# Altium schematic symbol library ic-fpga.SchLib: 6 symbols
Pins are listed as number, name and electrical type; pins without a type are passive.

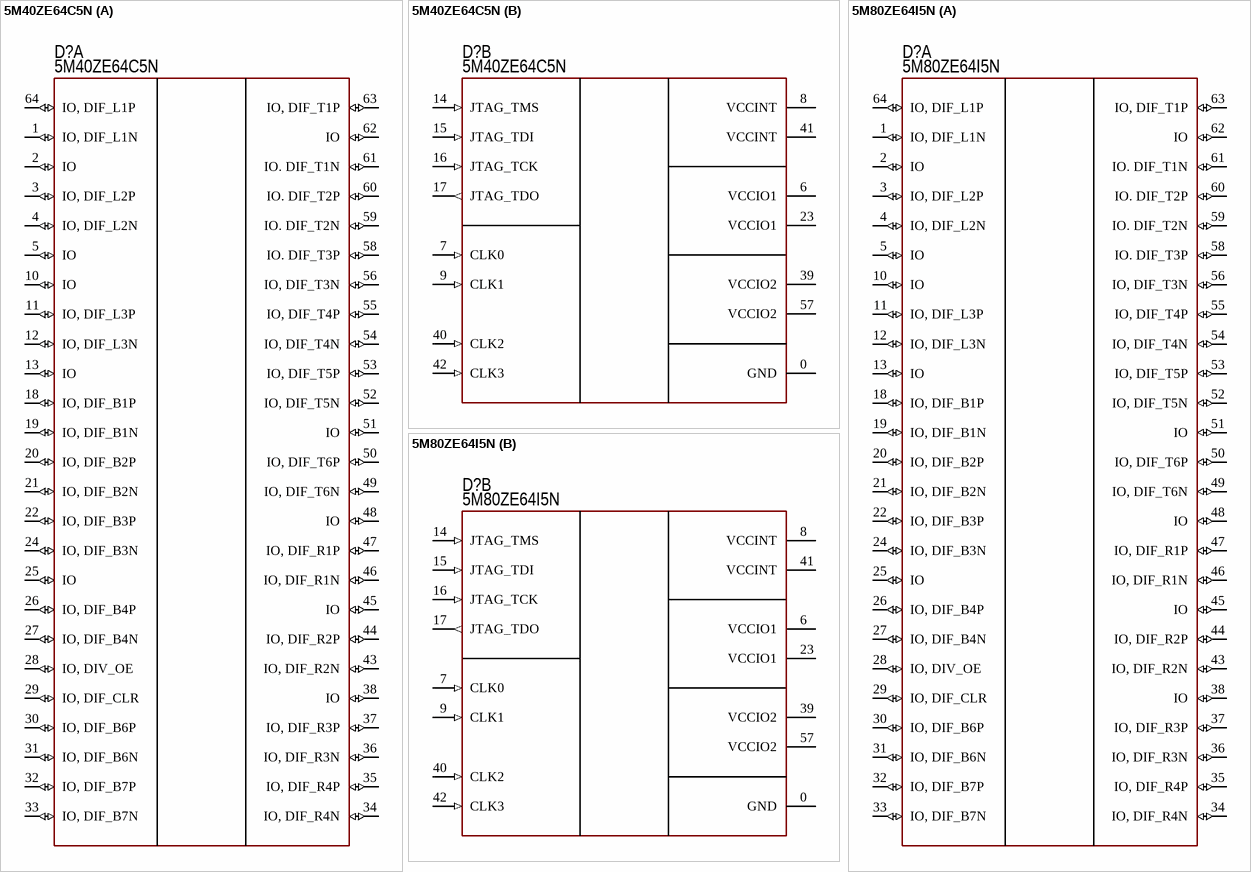
[diagram p0: symbols 5M40ZE64C5N to 5M80ZE64I5N]

## 5M40ZE64C5N
designator D?  PartNumber: 5M40ZE64C5N
CPLD Max V; Manufacturer: Intel; ValueManufacturerPartNumber: IC CPLD logic, MAX V, 100MHz, 40LE, 1.71...3.6V, -40...+85°C, 64-EQFP; Supply: 1.71...3.6V; Speed: 100MHz; LogicElements: 40LE; HelpURL: https://www.digikey.com/products/en?keywords=5M40ZE64C5N; Package: 64-EQFP; ComponentType: IC CPLD logic; Temperature: -40...+85°C; Series: MAX V
footprint 64-EQFP (pitch 0.4 mm, power pad)
part A pins: 1 IO, DIF_L1N (io), 2 IO (io), 3 IO, DIF_L2P (io), 4 IO, DIF_L2N (io), 5 IO (io), 10 IO (io), 11 IO, DIF_L3P (io), 12 IO, DIF_L3N (io), 13 IO (io), 18 IO, DIF_B1P (io), 19 IO, DIF_B1N (io), 20 IO, DIF_B2P (io), 21 IO, DIF_B2N (io), 22 IO, DIF_B3P (io), 24 IO, DIF_B3N (io), 25 IO (io), 26 IO, DIF_B4P (io), 27 IO, DIF_B4N (io), 28 IO, DIV_OE (io), 29 IO, DIF_CLR (io), 30 IO, DIF_B6P (io), 31 IO, DIF_B6N (io), 32 IO, DIF_B7P (io), 33 IO, DIF_B7N (io), 34 IO, DIF_R4N (io), 35 IO, DIF_R4P (io), 36 IO, DIF_R3N (io), 37 IO, DIF_R3P (io), 38 IO (io), 43 IO, DIF_R2N (io), 44 IO, DIF_R2P (io), 45 IO (io), 46 IO, DIF_R1N (io), 47 IO, DIF_R1P (io), 48 IO (io), 49 IO, DIF_T6N (io), 50 IO, DIF_T6P (io), 51 IO (io), 52 IO, DIF_T5N (io), 53 IO, DIF_T5P (io), 54 IO, DIF_T4N (io), 55 IO, DIF_T4P (io), 56 IO, DIF_T3N (io), 58 IO. DIF_T3P (io), 59 IO. DIF_T2N (io), 60 IO. DIF_T2P (io), 61 IO. DIF_T1N (io), 62 IO (io), 63 IO, DIF_T1P (io), 64 IO, DIF_L1P (io)
part B pins: 0 GND (power), 6 VCCIO1 (power), 7 CLK0 (in), 8 VCCINT (power), 9 CLK1 (in), 14 JTAG_TMS (in), 15 JTAG_TDI (in), 16 JTAG_TCK (in), 17 JTAG_TDO (out), 23 VCCIO1 (power), 39 VCCIO2 (power), 40 CLK2 (in), 41 VCCINT (power), 42 CLK3 (in), 57 VCCIO2 (power)

## 5M80ZE64I5N
designator D?  PartNumber: 5M80ZE64I5N
CPLD Max V; Manufacturer: Intel; ValueManufacturerPartNumber: IC CPLD logic, MAX V, 100MHz, 80LE, 1.71...1.89V, -40...+100°C, 64-EQFP; Supply: 1.71...1.89V; Speed: 100MHz; LogicElements: 80LE; HelpURL: https://www.digikey.com/product-detail/en/intel/5M80ZE64I5N/544-2817-ND/2660734; Package: 64-EQFP; ComponentType: IC CPLD logic; Temperature: -40...+100°C; Series: MAX V
footprint 64-EQFP (pitch 0.4 mm, power pad)
part A pins: 1 IO, DIF_L1N (io), 2 IO (io), 3 IO, DIF_L2P (io), 4 IO, DIF_L2N (io), 5 IO (io), 10 IO (io), 11 IO, DIF_L3P (io), 12 IO, DIF_L3N (io), 13 IO (io), 18 IO, DIF_B1P (io), 19 IO, DIF_B1N (io), 20 IO, DIF_B2P (io), 21 IO, DIF_B2N (io), 22 IO, DIF_B3P (io), 24 IO, DIF_B3N (io), 25 IO (io), 26 IO, DIF_B4P (io), 27 IO, DIF_B4N (io), 28 IO, DIV_OE (io), 29 IO, DIF_CLR (io), 30 IO, DIF_B6P (io), 31 IO, DIF_B6N (io), 32 IO, DIF_B7P (io), 33 IO, DIF_B7N (io), 34 IO, DIF_R4N (io), 35 IO, DIF_R4P (io), 36 IO, DIF_R3N (io), 37 IO, DIF_R3P (io), 38 IO (io), 43 IO, DIF_R2N (io), 44 IO, DIF_R2P (io), 45 IO (io), 46 IO, DIF_R1N (io), 47 IO, DIF_R1P (io), 48 IO (io), 49 IO, DIF_T6N (io), 50 IO, DIF_T6P (io), 51 IO (io), 52 IO, DIF_T5N (io), 53 IO, DIF_T5P (io), 54 IO, DIF_T4N (io), 55 IO, DIF_T4P (io), 56 IO, DIF_T3N (io), 58 IO. DIF_T3P (io), 59 IO. DIF_T2N (io), 60 IO. DIF_T2P (io), 61 IO. DIF_T1N (io), 62 IO (io), 63 IO, DIF_T1P (io), 64 IO, DIF_L1P (io)
part B pins: 0 GND (power), 6 VCCIO1 (power), 7 CLK0 (in), 8 VCCINT (power), 9 CLK1 (in), 14 JTAG_TMS (in), 15 JTAG_TDI (in), 16 JTAG_TCK (in), 17 JTAG_TDO (out), 23 VCCIO1 (power), 39 VCCIO2 (power), 40 CLK2 (in), 41 VCCINT (power), 42 CLK3 (in), 57 VCCIO2 (power)

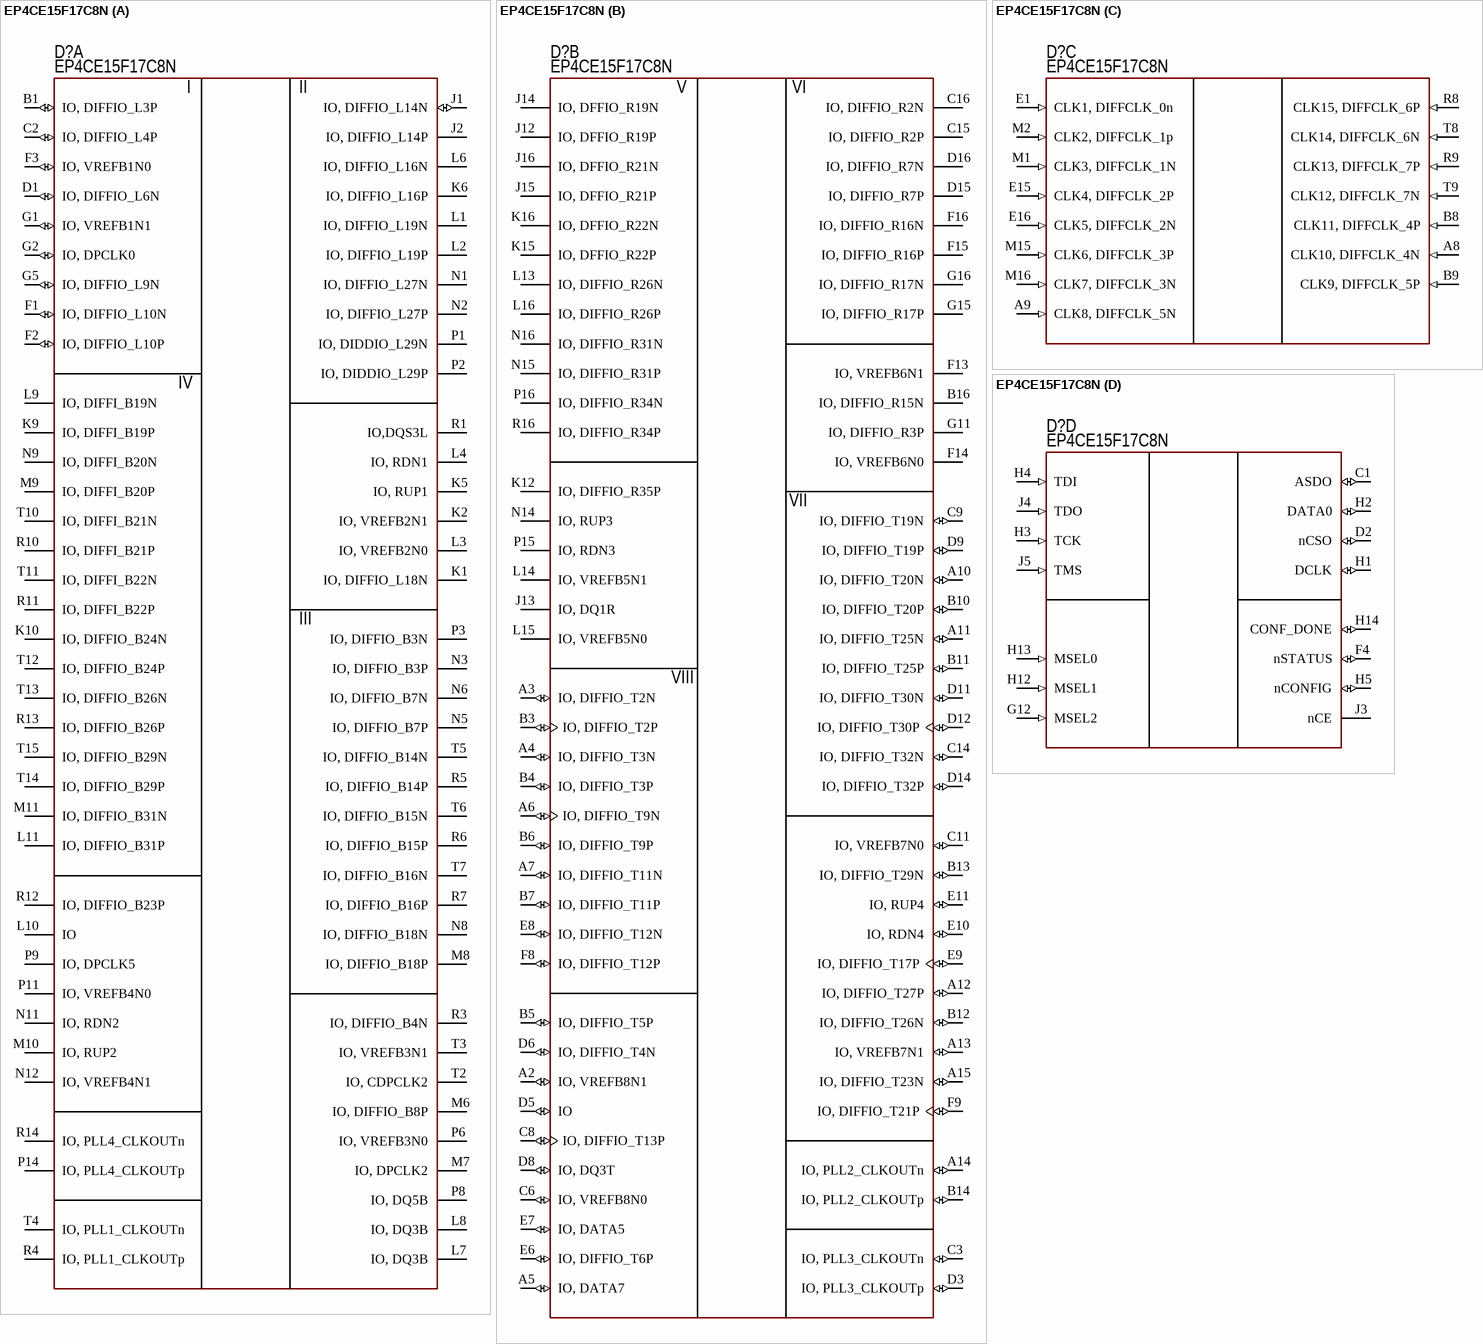
[diagram p1: symbol EP4CE15F17C8N]

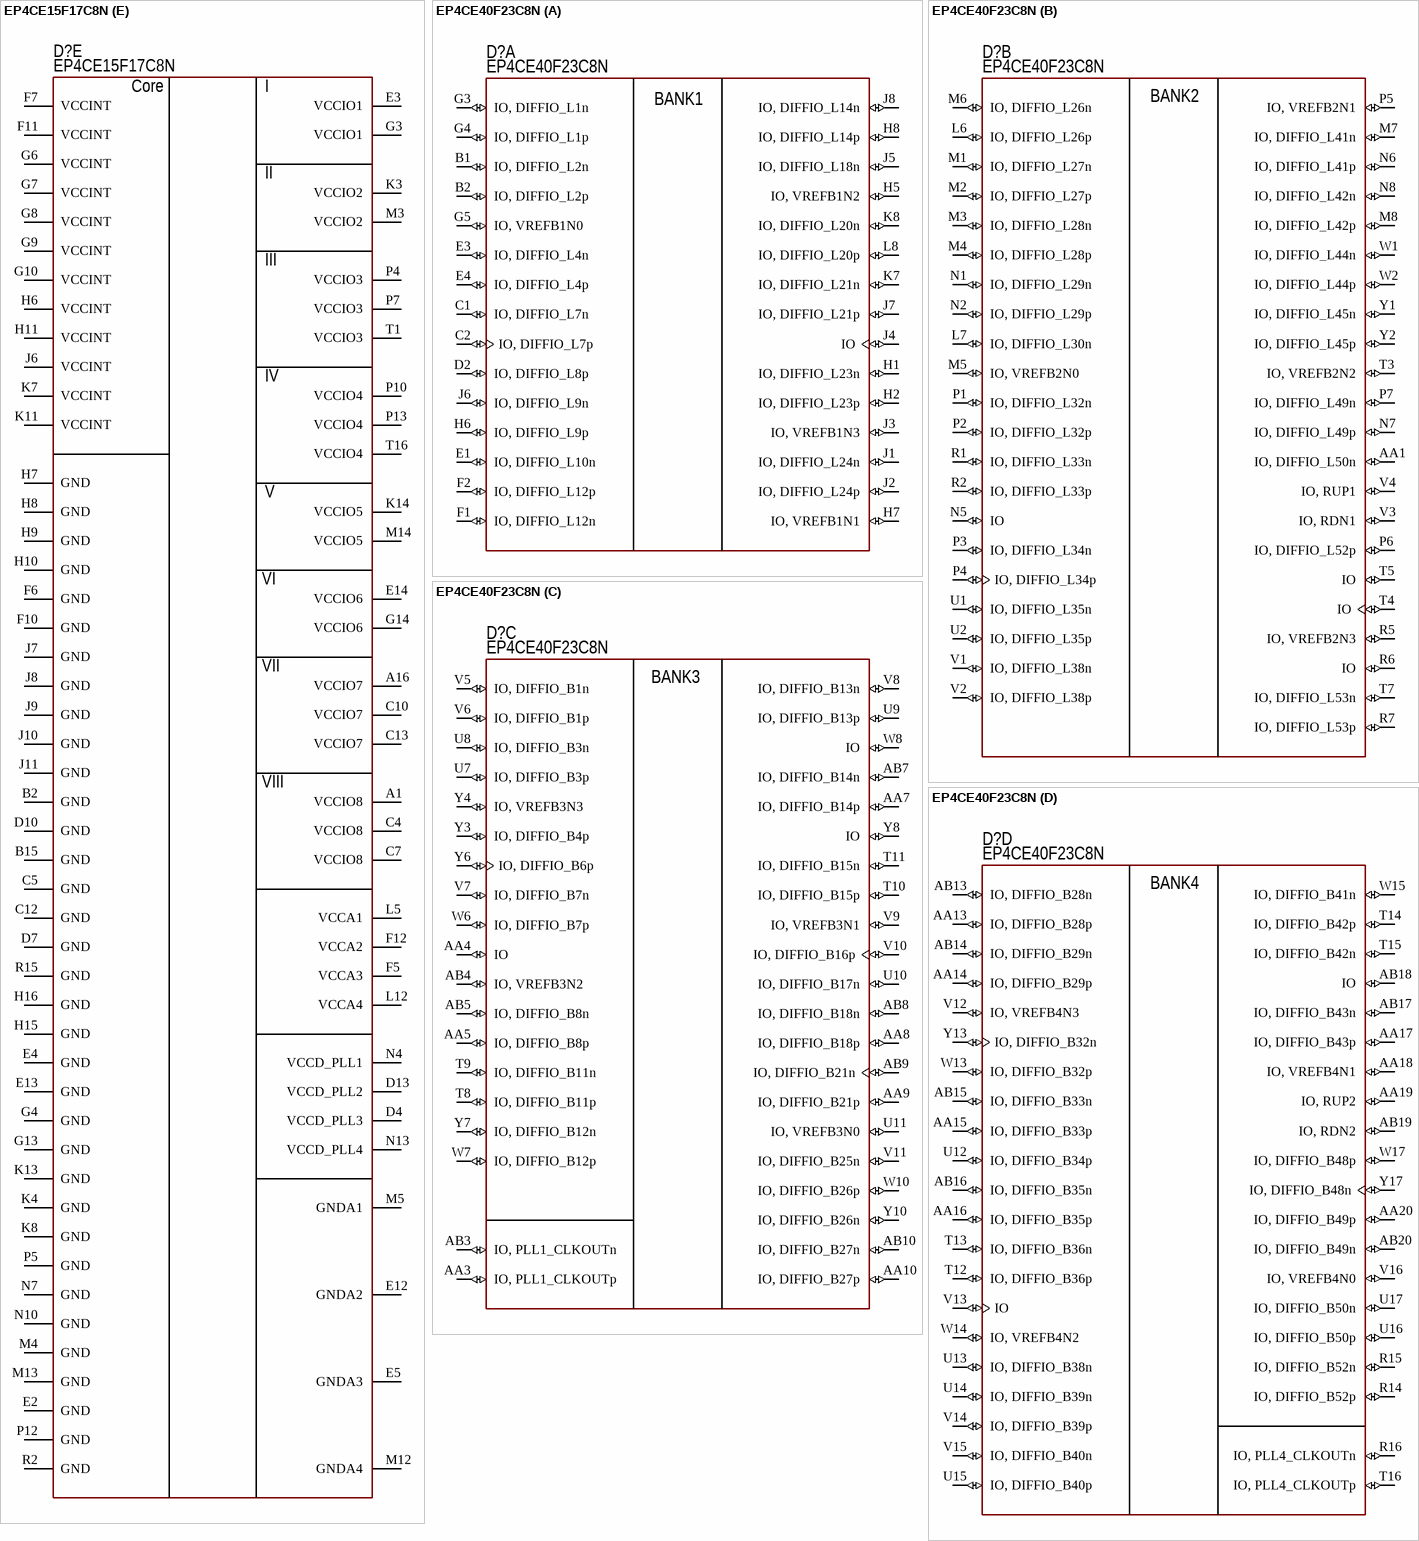
[diagram p2: symbols EP4CE15F17C8N to EP4CE40F23C8N]

## EP4CE15F17C8N
designator D?  PartNumber: EP4CE15F17C8N
FPGA Cyclone IV; Manufacturer: Intel; ValueManufacturerPartNumber: IC FPGA, Cyclone IV, 400MHz, 15480LE, 516096 bits, 1.15...1.25V, 0...+85°C, 256-LBGA; Supply: 1.15...1.25V; Speed: 400MHz; LogicElements: 15480LE; MemoryRAM: 516096 bits; HelpURL: https://www.digikey.com/product-detail/en/intel/EP4CE15F17C8N/544-2808-ND/2288302; Package: 256-LBGA; ComponentType: IC FPGA; Temperature: 0...+85°C; Series: Cyclone IV
footprint 256-FBGA (pitch 1mm)
part A pins: B1 IO, DIFFIO_L3P (io), C2 IO, DIFFIO_L4P (io), D1 IO, DIFFIO_L6N (io), F1 IO, DIFFIO_L10N (io), F2 IO, DIFFIO_L10P (io), F3 IO, VREFB1N0 (io), G1 IO, VREFB1N1 (io), G2 IO, DPCLK0 (io), G5 IO, DIFFIO_L9N (io), J1 IO, DIFFIO_L14N (io), J2 IO, DIFFIO_L14P, K1 IO, DIFFIO_L18N, K2 IO, VREFB2N1, K5 IO, RUP1, K6 IO, DIFFIO_L16P, K9 IO, DIFFI_B19P, K10 IO, DIFFIO_B24N, L1 IO, DIFFIO_L19N, L2 IO, DIFFIO_L19P, L3 IO, VREFB2N0, L4 IO, RDN1, L6 IO, DIFFIO_L16N, L7 IO, DQ3B, L8 IO, DQ3B, L9 IO, DIFFI_B19N, L10 IO, L11 IO, DIFFIO_B31P, M6 IO, DIFFIO_B8P, M7 IO, DPCLK2, M8 IO, DIFFIO_B18P, M9 IO, DIFFI_B20P, M10 IO, RUP2, M11 IO, DIFFIO_B31N, N1 IO, DIFFIO_L27N, N2 IO, DIFFIO_L27P, N3 IO, DIFFIO_B3P, N5 IO, DIFFIO_B7P, N6 IO, DIFFIO_B7N, N8 IO, DIFFIO_B18N, N9 IO, DIFFI_B20N, N11 IO, RDN2, N12 IO, VREFB4N1, P1 IO, DIDDIO_L29N, P2 IO, DIDDIO_L29P, P3 IO, DIFFIO_B3N, P6 IO, VREFB3N0, P8 IO, DQ5B, P9 IO, DPCLK5, P11 IO, VREFB4N0, P14 IO, PLL4_CLKOUTp, R1 IO,DQS3L, R3 IO, DIFFIO_B4N, R4 IO, PLL1_CLKOUTp, R5 IO, DIFFIO_B14P, R6 IO, DIFFIO_B15P, R7 IO, DIFFIO_B16P, R10 IO, DIFFI_B21P, R11 IO, DIFFI_B22P, R12 IO, DIFFIO_B23P, R13 IO, DIFFIO_B26P, R14 IO, PLL4_CLKOUTn, T2 IO, CDPCLK2, T3 IO, VREFB3N1, T4 IO, PLL1_CLKOUTn, T5 IO, DIFFIO_B14N, T6 IO, DIFFIO_B15N, T7 IO, DIFFIO_B16N, T10 IO, DIFFI_B21N, T11 IO, DIFFI_B22N, T12 IO, DIFFIO_B24P, T13 IO, DIFFIO_B26N, T14 IO, DIFFIO_B29P, T15 IO, DIFFIO_B29N
part B pins: A2 IO, VREFB8N1 (io), A3 IO, DIFFIO_T2N (io), A4 IO, DIFFIO_T3N (io), A5 IO, DATA7 (io), A6 IO, DIFFIO_T9N (io), A7 IO, DIFFIO_T11N (io), A10 IO, DIFFIO_T20N (io), A11 IO, DIFFIO_T25N (io), A12 IO, DIFFIO_T27P (io), A13 IO, VREFB7N1 (io), A14 IO, PLL2_CLKOUTn (io), A15 IO, DIFFIO_T23N (io), B3 IO, DIFFIO_T2P (io), B4 IO, DIFFIO_T3P (io), B5 IO, DIFFIO_T5P (io), B6 IO, DIFFIO_T9P (io), B7 IO, DIFFIO_T11P (io), B10 IO, DIFFIO_T20P (io), B11 IO, DIFFIO_T25P (io), B12 IO, DIFFIO_T26N (io), B13 IO, DIFFIO_T29N (io), B14 IO, PLL2_CLKOUTp (io), B16 IO, DIFFIO_R15N, C3 IO, PLL3_CLKOUTn (io), C6 IO, VREFB8N0 (io), C8 IO, DIFFIO_T13P (io), C9 IO, DIFFIO_T19N (io), C11 IO, VREFB7N0 (io), C14 IO, DIFFIO_T32N (io), C15 IO, DIFFIO_R2P, C16 IO, DIFFIO_R2N, D3 IO, PLL3_CLKOUTp (io), D5 IO (io), D6 IO, DIFFIO_T4N (io), D8 IO, DQ3T (io), D9 IO, DIFFIO_T19P (io), D11 IO, DIFFIO_T30N (io), D12 IO, DIFFIO_T30P (io), D14 IO, DIFFIO_T32P (io), D15 IO, DIFFIO_R7P, D16 IO, DIFFIO_R7N, E6 IO, DIFFIO_T6P (io), E7 IO, DATA5 (io), E8 IO, DIFFIO_T12N (io), E9 IO, DIFFIO_T17P (io), E10 IO, RDN4 (io), E11 IO, RUP4 (io), F8 IO, DIFFIO_T12P (io), F9 IO, DIFFIO_T21P (io), F13 IO, VREFB6N1, F14 IO, VREFB6N0, F15 IO, DIFFIO_R16P, F16 IO, DIFFIO_R16N, G11 IO, DIFFIO_R3P, G15 IO, DIFFIO_R17P, G16 IO, DIFFIO_R17N, J12 IO, DFFIO_R19P, J13 IO, DQ1R, J14 IO, DFFIO_R19N, J15 IO, DFFIO_R21P, J16 IO, DFFIO_R21N, K12 IO, DIFFIO_R35P, K15 IO, DFFIO_R22P, K16 IO, DFFIO_R22N, L13 IO, DIFFIO_R26N, L14 IO, VREFB5N1, L15 IO, VREFB5N0, L16 IO, DIFFIO_R26P, N14 IO, RUP3, N15 IO, DIFFIO_R31P, N16 IO, DIFFIO_R31N, P15 IO, RDN3, P16 IO, DIFFIO_R34N, R16 IO, DIFFIO_R34P
part C pins: A8 CLK10, DIFFCLK_4N (in), A9 CLK8, DIFFCLK_5N (in), B8 CLK11, DIFFCLK_4P (in), B9 CLK9, DIFFCLK_5P (in), E1 CLK1, DIFFCLK_0n (in), E15 CLK4, DIFFCLK_2P (in), E16 CLK5, DIFFCLK_2N (in), M1 CLK3, DIFFCLK_1N (in), M2 CLK2, DIFFCLK_1p (in), M15 CLK6, DIFFCLK_3P (in), M16 CLK7, DIFFCLK_3N (in), R8 CLK15, DIFFCLK_6P (in), R9 CLK13, DIFFCLK_7P (in), T8 CLK14, DIFFCLK_6N (in), T9 CLK12, DIFFCLK_7N (in)
part D pins: C1 ASDO (io), D2 nCSO (io), F4 nSTATUS (io), G12 MSEL2 (in), H1 DCLK (io), H2 DATA0 (io), H3 TCK (in), H4 TDI (in), H5 nCONFIG (io), H12 MSEL1 (in), H13 MSEL0 (in), H14 CONF_DONE (io), J3 nCE, J4 TDO (in), J5 TMS (in)
part E pins: A1 VCCIO8, A16 VCCIO7, B2 GND, B15 GND, C4 VCCIO8, C5 GND, C7 VCCIO8, C10 VCCIO7, C12 GND, C13 VCCIO7, D4 VCCD_PLL3, D7 GND, D10 GND, D13 VCCD_PLL2, E2 GND, E3 VCCIO1, E4 GND, E5 GNDA3, E12 GNDA2, E13 GND, E14 VCCIO6, F5 VCCA3, F6 GND, F7 VCCINT, F10 GND, F11 VCCINT, F12 VCCA2, G3 VCCIO1, G4 GND, G6 VCCINT, G7 VCCINT, G8 VCCINT, G9 VCCINT, G10 VCCINT, G13 GND, G14 VCCIO6, H6 VCCINT, H7 GND, H8 GND, H9 GND, H10 GND, H11 VCCINT, H15 GND, H16 GND, J6 VCCINT, J7 GND, J8 GND, J9 GND, J10 GND, J11 GND, K3 VCCIO2, K4 GND, K7 VCCINT, K8 GND, K11 VCCINT, K13 GND, K14 VCCIO5, L5 VCCA1, L12 VCCA4, M3 VCCIO2, M4 GND, M5 GNDA1, M12 GNDA4, M13 GND, M14 VCCIO5, N4 VCCD_PLL1, N7 GND, N10 GND, N13 VCCD_PLL4, P4 VCCIO3, P5 GND, P7 VCCIO3, P10 VCCIO4, P12 GND, P13 VCCIO4, R2 GND, R15 GND, T1 VCCIO3, T16 VCCIO4
part A text: I; II; IV; III
part B text: V; VI; VII; VIII
part E text: Core; I; II; III; IV; V; VI; VII; VIII

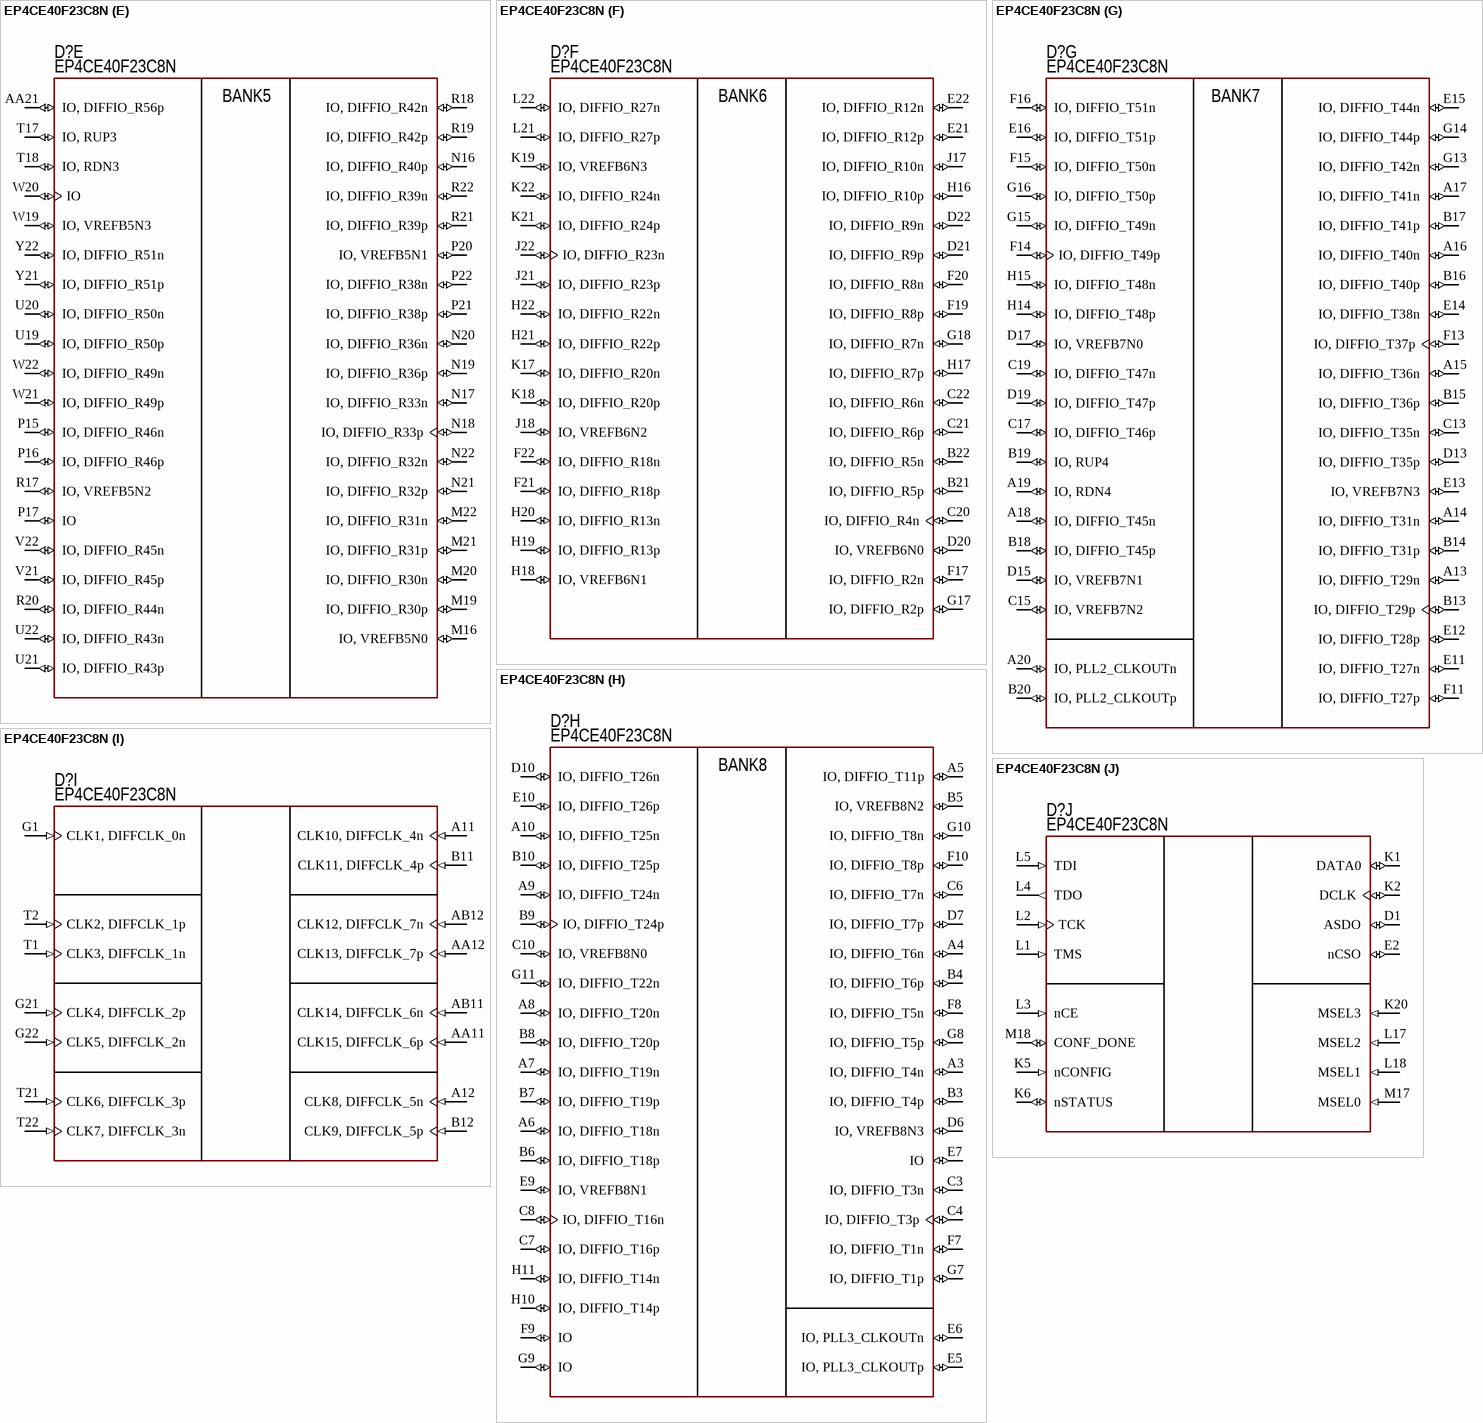
[diagram p3: symbol EP4CE40F23C8N]

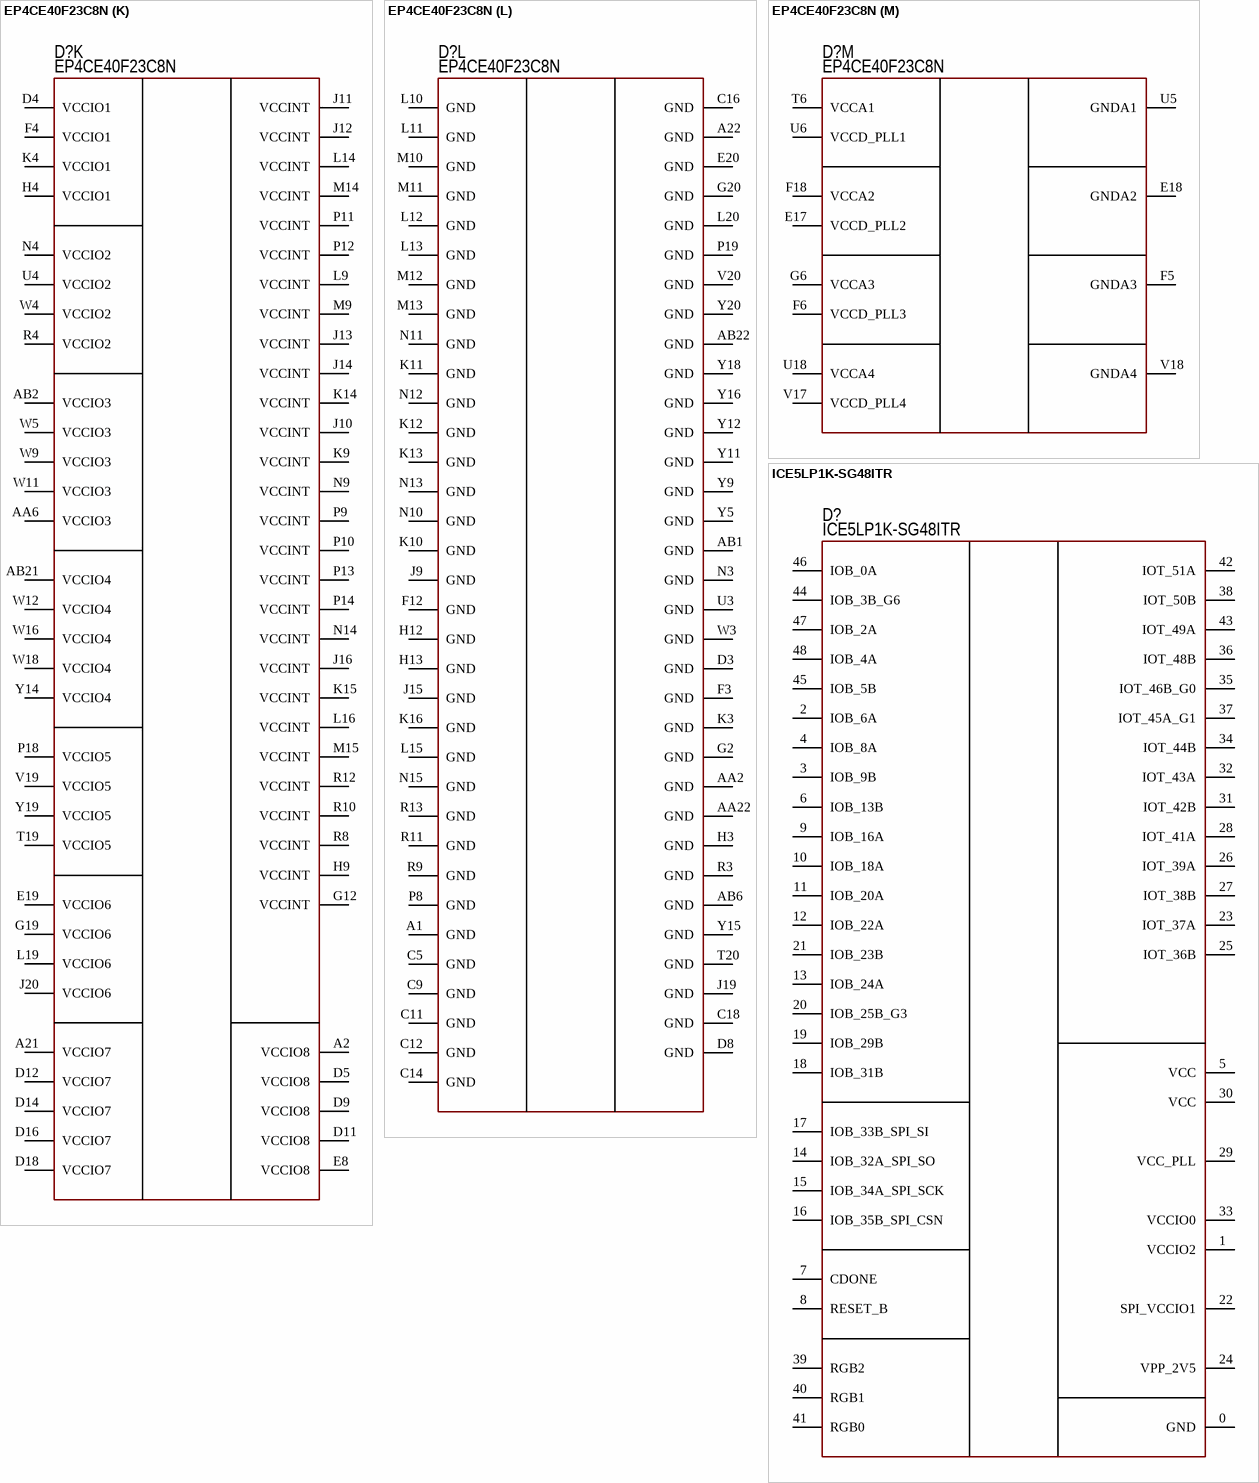
[diagram p4: symbols EP4CE40F23C8N to ICE5LP1K-SG48ITR]

## EP4CE40F23C8N
designator D?  PartNumber: EP4CE40F23C8N
FPGA Cyclone IV; Manufacturer: Intel; ValueManufacturerPartNumber: IC FPGA, Cyclone IV, 400MHz, 39600LE, 1161216 bits, 1.15...1.25V, 0...+85°C, 484-FBGA; Supply: 1.15...1.25V; Speed: 400MHz; LogicElements: 39600LE; MemoryRAM: 1161216 bits; HelpURL: https://www.digikey.com/products/en?keywords=EP4CE40F23C8N; Package: 484-FBGA; ComponentType: IC FPGA; Temperature: 0...+85°C; Series: Cyclone IV
footprint 484-FBGA (pitch 1 mm)
part A pins: B1 IO, DIFFIO_L2n (io), B2 IO, DIFFIO_L2p (io), C1 IO, DIFFIO_L7n (io), C2 IO, DIFFIO_L7p (io), D2 IO, DIFFIO_L8p (io), E1 IO, DIFFIO_L10n (io), E3 IO, DIFFIO_L4n (io), E4 IO, DIFFIO_L4p (io), F1 IO, DIFFIO_L12n (io), F2 IO, DIFFIO_L12p (io), G3 IO, DIFFIO_L1n (io), G4 IO, DIFFIO_L1p (io), G5 IO, VREFB1N0 (io), H1 IO, DIFFIO_L23n (io), H2 IO, DIFFIO_L23p (io), H5 IO, VREFB1N2 (io), H6 IO, DIFFIO_L9p (io), H7 IO, VREFB1N1 (io), H8 IO, DIFFIO_L14p (io), J1 IO, DIFFIO_L24n (io), J2 IO, DIFFIO_L24p (io), J3 IO, VREFB1N3 (io), J4 IO (io), J5 IO, DIFFIO_L18n (io), J6 IO, DIFFIO_L9n (io), J7 IO, DIFFIO_L21p (io), J8 IO, DIFFIO_L14n (io), K7 IO, DIFFIO_L21n (io), K8 IO, DIFFIO_L20n (io), L8 IO, DIFFIO_L20p (io)
part B pins: AA1 IO, DIFFIO_L50n (io), L6 IO, DIFFIO_L26p (io), L7 IO, DIFFIO_L30n (io), M1 IO, DIFFIO_L27n (io), M2 IO, DIFFIO_L27p (io), M3 IO, DIFFIO_L28n (io), M4 IO, DIFFIO_L28p (io), M5 IO, VREFB2N0 (io), M6 IO, DIFFIO_L26n (io), M7 IO, DIFFIO_L41n (io), M8 IO, DIFFIO_L42p (io), N1 IO, DIFFIO_L29n (io), N2 IO, DIFFIO_L29p (io), N5 IO (io), N6 IO, DIFFIO_L41p (io), N7 IO, DIFFIO_L49p (io), N8 IO, DIFFIO_L42n (io), P1 IO, DIFFIO_L32n (io), P2 IO, DIFFIO_L32p (io), P3 IO, DIFFIO_L34n (io), P4 IO, DIFFIO_L34p (io), P5 IO, VREFB2N1 (io), P6 IO, DIFFIO_L52p (io), P7 IO, DIFFIO_L49n (io), R1 IO, DIFFIO_L33n (io), R2 IO, DIFFIO_L33p (io), R5 IO, VREFB2N3 (io), R6 IO (io), R7 IO, DIFFIO_L53p (io), T3 IO, VREFB2N2 (io), T4 IO (io), T5 IO (io), T7 IO, DIFFIO_L53n (io), U1 IO, DIFFIO_L35n (io), U2 IO, DIFFIO_L35p (io), V1 IO, DIFFIO_L38n (io), V2 IO, DIFFIO_L38p (io), V3 IO, RDN1 (io), V4 IO, RUP1 (io), W1 IO, DIFFIO_L44n (io), W2 IO, DIFFIO_L44p (io), Y1 IO, DIFFIO_L45n (io), Y2 IO, DIFFIO_L45p (io)
part C pins: AA3 IO, PLL1_CLKOUTp (io), AA4 IO (io), AA5 IO, DIFFIO_B8p (io), AA7 IO, DIFFIO_B14p (io), AA8 IO, DIFFIO_B18p (io), AA9 IO, DIFFIO_B21p (io), AA10 IO, DIFFIO_B27p (io), AB3 IO, PLL1_CLKOUTn (io), AB4 IO, VREFB3N2 (io), AB5 IO, DIFFIO_B8n (io), AB7 IO, DIFFIO_B14n (io), AB8 IO, DIFFIO_B18n (io), AB9 IO, DIFFIO_B21n (io), AB10 IO, DIFFIO_B27n (io), T8 IO, DIFFIO_B11p (io), T9 IO, DIFFIO_B11n (io), T10 IO, DIFFIO_B15p (io), T11 IO, DIFFIO_B15n (io), U7 IO, DIFFIO_B3p (io), U8 IO, DIFFIO_B3n (io), U9 IO, DIFFIO_B13p (io), U10 IO, DIFFIO_B17n (io), U11 IO, VREFB3N0 (io), V5 IO, DIFFIO_B1n (io), V6 IO, DIFFIO_B1p (io), V7 IO, DIFFIO_B7n (io), V8 IO, DIFFIO_B13n (io), V9 IO, VREFB3N1 (io), V10 IO, DIFFIO_B16p (io), V11 IO, DIFFIO_B25n (io), W6 IO, DIFFIO_B7p (io), W7 IO, DIFFIO_B12p (io), W8 IO (io), W10 IO, DIFFIO_B26p (io), Y3 IO, DIFFIO_B4p (io), Y4 IO, VREFB3N3 (io), Y6 IO, DIFFIO_B6p (io), Y7 IO, DIFFIO_B12n (io), Y8 IO (io), Y10 IO, DIFFIO_B26n (io)
part D pins: AA13 IO, DIFFIO_B28p (io), AA14 IO, DIFFIO_B29p (io), AA15 IO, DIFFIO_B33p (io), AA16 IO, DIFFIO_B35p (io), AA17 IO, DIFFIO_B43p (io), AA18 IO, VREFB4N1 (io), AA19 IO, RUP2 (io), AA20 IO, DIFFIO_B49p (io), AB13 IO, DIFFIO_B28n (io), AB14 IO, DIFFIO_B29n (io), AB15 IO, DIFFIO_B33n (io), AB16 IO, DIFFIO_B35n (io), AB17 IO, DIFFIO_B43n (io), AB18 IO (io), AB19 IO, RDN2 (io), AB20 IO, DIFFIO_B49n (io), R14 IO, DIFFIO_B52p (io), R15 IO, DIFFIO_B52n (io), R16 IO, PLL4_CLKOUTn (io), T12 IO, DIFFIO_B36p (io), T13 IO, DIFFIO_B36n (io), T14 IO, DIFFIO_B42p (io), T15 IO, DIFFIO_B42n (io), T16 IO, PLL4_CLKOUTp (io), U12 IO, DIFFIO_B34p (io), U13 IO, DIFFIO_B38n (io), U14 IO, DIFFIO_B39n (io), U15 IO, DIFFIO_B40p (io), U16 IO, DIFFIO_B50p (io), U17 IO, DIFFIO_B50n (io), V12 IO, VREFB4N3 (io), V13 IO (io), V14 IO, DIFFIO_B39p (io), V15 IO, DIFFIO_B40n (io), V16 IO, VREFB4N0 (io), W13 IO, DIFFIO_B32p (io), W14 IO, VREFB4N2 (io), W15 IO, DIFFIO_B41n (io), W17 IO, DIFFIO_B48p (io), Y13 IO, DIFFIO_B32n (io), Y17 IO, DIFFIO_B48n (io)
part E pins: AA21 IO, DIFFIO_R56p (io), M16 IO, VREFB5N0 (io), M19 IO, DIFFIO_R30p (io), M20 IO, DIFFIO_R30n (io), M21 IO, DIFFIO_R31p (io), M22 IO, DIFFIO_R31n (io), N16 IO, DIFFIO_R40p (io), N17 IO, DIFFIO_R33n (io), N18 IO, DIFFIO_R33p (io), N19 IO, DIFFIO_R36p (io), N20 IO, DIFFIO_R36n (io), N21 IO, DIFFIO_R32p (io), N22 IO, DIFFIO_R32n (io), P15 IO, DIFFIO_R46n (io), P16 IO, DIFFIO_R46p (io), P17 IO (io), P20 IO, VREFB5N1 (io), P21 IO, DIFFIO_R38p (io), P22 IO, DIFFIO_R38n (io), R17 IO, VREFB5N2 (io), R18 IO, DIFFIO_R42n (io), R19 IO, DIFFIO_R42p (io), R20 IO, DIFFIO_R44n (io), R21 IO, DIFFIO_R39p (io), R22 IO, DIFFIO_R39n (io), T17 IO, RUP3 (io), T18 IO, RDN3 (io), U19 IO, DIFFIO_R50p (io), U20 IO, DIFFIO_R50n (io), U21 IO, DIFFIO_R43p (io), U22 IO, DIFFIO_R43n (io), V21 IO, DIFFIO_R45p (io), V22 IO, DIFFIO_R45n (io), W19 IO, VREFB5N3 (io), W20 IO (io), W21 IO, DIFFIO_R49p (io), W22 IO, DIFFIO_R49n (io), Y21 IO, DIFFIO_R51p (io), Y22 IO, DIFFIO_R51n (io)
part F pins: B21 IO, DIFFIO_R5p (io), B22 IO, DIFFIO_R5n (io), C20 IO, DIFFIO_R4n (io), C21 IO, DIFFIO_R6p (io), C22 IO, DIFFIO_R6n (io), D20 IO, VREFB6N0 (io), D21 IO, DIFFIO_R9p (io), D22 IO, DIFFIO_R9n (io), E21 IO, DIFFIO_R12p (io), E22 IO, DIFFIO_R12n (io), F17 IO, DIFFIO_R2n (io), F19 IO, DIFFIO_R8p (io), F20 IO, DIFFIO_R8n (io), F21 IO, DIFFIO_R18p (io), F22 IO, DIFFIO_R18n (io), G17 IO, DIFFIO_R2p (io), G18 IO, DIFFIO_R7n (io), H16 IO, DIFFIO_R10p (io), H17 IO, DIFFIO_R7p (io), H18 IO, VREFB6N1 (io), H19 IO, DIFFIO_R13p (io), H20 IO, DIFFIO_R13n (io), H21 IO, DIFFIO_R22p (io), H22 IO, DIFFIO_R22n (io), J17 IO, DIFFIO_R10n (io), J18 IO, VREFB6N2 (io), J21 IO, DIFFIO_R23p (io), J22 IO, DIFFIO_R23n (io), K17 IO, DIFFIO_R20n (io), K18 IO, DIFFIO_R20p (io), K19 IO, VREFB6N3 (io), K21 IO, DIFFIO_R24p (io), K22 IO, DIFFIO_R24n (io), L21 IO, DIFFIO_R27p (io), L22 IO, DIFFIO_R27n (io)
part G pins: A13 IO, DIFFIO_T29n (io), A14 IO, DIFFIO_T31n (io), A15 IO, DIFFIO_T36n (io), A16 IO, DIFFIO_T40n (io), A17 IO, DIFFIO_T41n (io), A18 IO, DIFFIO_T45n (io), A19 IO, RDN4 (io), A20 IO, PLL2_CLKOUTn (io), B13 IO, DIFFIO_T29p (io), B14 IO, DIFFIO_T31p (io), B15 IO, DIFFIO_T36p (io), B16 IO, DIFFIO_T40p (io), B17 IO, DIFFIO_T41p (io), B18 IO, DIFFIO_T45p (io), B19 IO, RUP4 (io), B20 IO, PLL2_CLKOUTp (io), C13 IO, DIFFIO_T35n (io), C15 IO, VREFB7N2 (io), C17 IO, DIFFIO_T46p (io), C19 IO, DIFFIO_T47n (io), D13 IO, DIFFIO_T35p (io), D15 IO, VREFB7N1 (io), D17 IO, VREFB7N0 (io), D19 IO, DIFFIO_T47p (io), E11 IO, DIFFIO_T27n (io), E12 IO, DIFFIO_T28p (io), E13 IO, VREFB7N3 (io), E14 IO, DIFFIO_T38n (io), E15 IO, DIFFIO_T44n (io), E16 IO, DIFFIO_T51p (io), F11 IO, DIFFIO_T27p (io), F13 IO, DIFFIO_T37p (io), F14 IO, DIFFIO_T49p (io), F15 IO, DIFFIO_T50n (io), F16 IO, DIFFIO_T51n (io), G13 IO, DIFFIO_T42n (io), G14 IO, DIFFIO_T44p (io), G15 IO, DIFFIO_T49n (io), G16 IO, DIFFIO_T50p (io), H14 IO, DIFFIO_T48p (io), H15 IO, DIFFIO_T48n (io)
part H pins: A3 IO, DIFFIO_T4n (io), A4 IO, DIFFIO_T6n (io), A5 IO, DIFFIO_T11p (io), A6 IO, DIFFIO_T18n (io), A7 IO, DIFFIO_T19n (io), A8 IO, DIFFIO_T20n (io), A9 IO, DIFFIO_T24n (io), A10 IO, DIFFIO_T25n (io), B3 IO, DIFFIO_T4p (io), B4 IO, DIFFIO_T6p (io), B5 IO, VREFB8N2 (io), B6 IO, DIFFIO_T18p (io), B7 IO, DIFFIO_T19p (io), B8 IO, DIFFIO_T20p (io), B9 IO, DIFFIO_T24p (io), B10 IO, DIFFIO_T25p (io), C3 IO, DIFFIO_T3n (io), C4 IO, DIFFIO_T3p (io), C6 IO, DIFFIO_T7n (io), C7 IO, DIFFIO_T16p (io), C8 IO, DIFFIO_T16n (io), C10 IO, VREFB8N0 (io), D6 IO, VREFB8N3 (io), D7 IO, DIFFIO_T7p (io), D10 IO, DIFFIO_T26n (io), E5 IO, PLL3_CLKOUTp (io), E6 IO, PLL3_CLKOUTn (io), E7 IO (io), E9 IO, VREFB8N1 (io), E10 IO, DIFFIO_T26p (io), F7 IO, DIFFIO_T1n (io), F8 IO, DIFFIO_T5n (io), F9 IO (io), F10 IO, DIFFIO_T8p (io), G7 IO, DIFFIO_T1p (io), G8 IO, DIFFIO_T5p (io), G9 IO (io), G10 IO, DIFFIO_T8n (io), G11 IO, DIFFIO_T22n (io), H10 IO, DIFFIO_T14p (io), H11 IO, DIFFIO_T14n (io)
part I pins: A11 CLK10, DIFFCLK_4n (in), A12 CLK8, DIFFCLK_5n (in), AA11 CLK15, DIFFCLK_6p (in), AA12 CLK13, DIFFCLK_7p (in), AB11 CLK14, DIFFCLK_6n (in), AB12 CLK12, DIFFCLK_7n (in), B11 CLK11, DIFFCLK_4p (in), B12 CLK9, DIFFCLK_5p (in), G1 CLK1, DIFFCLK_0n (in), G21 CLK4, DIFFCLK_2p (in), G22 CLK5, DIFFCLK_2n (in), T1 CLK3, DIFFCLK_1n (in), T2 CLK2, DIFFCLK_1p (in), T21 CLK6, DIFFCLK_3p (in), T22 CLK7, DIFFCLK_3n (in)
part J pins: D1 ASDO (io), E2 nCSO (io), K1 DATA0 (io), K2 DCLK (io), K5 nCONFIG (in), K6 nSTATUS (io), K20 MSEL3 (in), L1 TMS (in), L2 TCK (in), L3 nCE (in), L4 TDO (out), L5 TDI (in), L17 MSEL2 (in), L18 MSEL1 (in), M17 MSEL0 (in), M18 CONF_DONE (io)
part K pins: A2 VCCIO8 (power), A21 VCCIO7 (power), AA6 VCCIO3 (power), AB2 VCCIO3 (power), AB21 VCCIO4 (power), D4 VCCIO1 (power), D5 VCCIO8 (power), D9 VCCIO8 (power), D11 VCCIO8 (power), D12 VCCIO7 (power), D14 VCCIO7 (power), D16 VCCIO7 (power), D18 VCCIO7 (power), E8 VCCIO8 (power), E19 VCCIO6 (power), F4 VCCIO1 (power), G12 VCCINT (power), G19 VCCIO6 (power), H4 VCCIO1 (power), H9 VCCINT (power), J10 VCCINT (power), J11 VCCINT (power), J12 VCCINT (power), J13 VCCINT (power), J14 VCCINT (power), J16 VCCINT (power), J20 VCCIO6 (power), K4 VCCIO1 (power), K9 VCCINT (power), K14 VCCINT (power), K15 VCCINT (power), L9 VCCINT (power), L14 VCCINT (power), L16 VCCINT (power), L19 VCCIO6 (power), M9 VCCINT (power), M14 VCCINT (power), M15 VCCINT (power), N4 VCCIO2 (power), N9 VCCINT (power), N14 VCCINT (power), P9 VCCINT (power), P10 VCCINT (power), P11 VCCINT (power), P12 VCCINT (power), P13 VCCINT (power), P14 VCCINT (power), P18 VCCIO5 (power), R4 VCCIO2 (power), R8 VCCINT (power), R10 VCCINT (power), R12 VCCINT (power), T19 VCCIO5 (power), U4 VCCIO2 (power), V19 VCCIO5 (power), W4 VCCIO2 (power), W5 VCCIO3 (power), W9 VCCIO3 (power), W11 VCCIO3 (power), W12 VCCIO4 (power), W16 VCCIO4 (power), W18 VCCIO4 (power), Y14 VCCIO4 (power), Y19 VCCIO5 (power)
part L pins: A1 GND (power), A22 GND (power), AA2 GND (power), AA22 GND (power), AB1 GND (power), AB6 GND (power), AB22 GND (power), C5 GND (power), C9 GND (power), C11 GND (power), C12 GND (power), C14 GND (power), C16 GND (power), C18 GND (power), D3 GND (power), D8 GND (power), E20 GND (power), F3 GND (power), F12 GND (power), G2 GND (power), G20 GND (power), H3 GND (power), H12 GND (power), H13 GND (power), J9 GND (power), J15 GND (power), J19 GND (power), K3 GND (power), K10 GND (power), K11 GND (power), K12 GND (power), K13 GND (power), K16 GND (power), L10 GND (power), L11 GND (power), L12 GND (power), L13 GND (power), L15 GND (power), L20 GND (power), M10 GND (power), M11 GND (power), M12 GND (power), M13 GND (power), N3 GND (power), N10 GND (power), N11 GND (power), N12 GND (power), N13 GND (power), N15 GND (power), P8 GND (power), P19 GND (power), R3 GND (power), R9 GND (power), R11 GND (power), R13 GND (power), T20 GND (power), U3 GND (power), V20 GND (power), W3 GND (power), Y5 GND (power), Y9 GND (power), Y11 GND (power), Y12 GND (power), Y15 GND (power), Y16 GND (power), Y18 GND (power), Y20 GND (power)
part M pins: E17 VCCD_PLL2 (power), E18 GNDA2 (power), F5 GNDA3 (power), F6 VCCD_PLL3 (power), F18 VCCA2 (power), G6 VCCA3 (power), T6 VCCA1 (power), U5 GNDA1 (power), U6 VCCD_PLL1 (power), U18 VCCA4 (power), V17 VCCD_PLL4 (power), V18 GNDA4 (power)
part A text: BANK1
part B text: BANK2
part C text: BANK3
part D text: BANK4
part E text: BANK5
part F text: BANK6
part G text: BANK7
part H text: BANK8

## ICE5LP1K-SG48ITR
designator D?  PartNumber: ICE5LP1K-SG48ITR
FPGA iCE40 Ultra; Manufacturer: Lattice; ValueManufacturerPartNumber: IC FPGA, iCE40 Ultra, 250MHz, 1100LE, 65536 bits, 1.14...1.26V, -40...+100°C, 48-VFQFN; Supply: 1.14...1.26V; Speed: 250MHz; LogicElements: 1100LE; MemoryRAM: 65536 bits; HelpURL: https://www.digikey.com/product-detail/en/lattice-semiconductor-corporation/ICE5LP1K-SG48ITR/220-2155-1-ND/8255949; Package: 48-VFQFN; ComponentType: IC FPGA; Temperature: -40...+100°C; Series: iCE40 Ultra
footprint 48-QFN (7x7) (7x7 mm, pitch 0.5 mm, power pad)
pins: 0 GND, 1 VCCIO2, 2 IOB_6A (power), 3 IOB_9B (power), 4 IOB_8A (power), 5 VCC, 6 IOB_13B (power), 7 CDONE (power), 8 RESET_B (power), 9 IOB_16A, 10 IOB_18A, 11 IOB_20A, 12 IOB_22A, 13 IOB_24A, 14 IOB_32A_SPI_SO, 15 IOB_34A_SPI_SCK, 16 IOB_35B_SPI_CSN, 17 IOB_33B_SPI_SI, 18 IOB_31B, 19 IOB_29B, 20 IOB_25B_G3, 21 IOB_23B, 22 SPI_VCCIO1, 23 IOT_37A, 24 VPP_2V5, 25 IOT_36B, 26 IOT_39A, 27 IOT_38B, 28 IOT_41A, 29 VCC_PLL, 30 VCC, 31 IOT_42B, 32 IOT_43A, 33 VCCIO0, 34 IOT_44B, 35 IOT_46B_G0, 36 IOT_48B, 37 IOT_45A_G1, 38 IOT_50B, 39 RGB2, 40 RGB1, 41 RGB0, 42 IOT_51A, 43 IOT_49A, 44 IOB_3B_G6 (power), 45 IOB_5B (power), 46 IOB_0A (power), 47 IOB_2A (power), 48 IOB_4A (power)

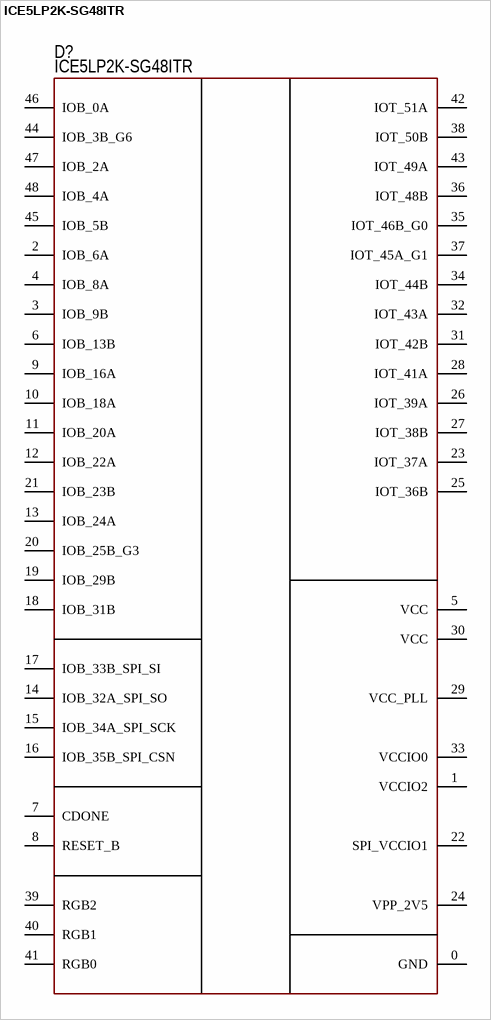
[diagram p5: symbol ICE5LP2K-SG48ITR]

## ICE5LP2K-SG48ITR
designator D?  PartNumber: ICE5LP2K-SG48ITR
FPGA iCE40 Ultra; Manufacturer: Lattice; ValueManufacturerPartNumber: IC FPGA, iCE40 Ultra, 200MHz, 2048LE, 81920 bits, 1.14...1.26V, -40...+100°C, 48-VFQFN; Supply: 1.14...1.26V; Speed: 200MHz; LogicElements: 2048LE; MemoryRAM: 81920 bits; HelpURL: https://www.digikey.com/product-detail/en/lattice-semiconductor-corporation/ICE5LP2K-SG48ITR/220-2232-1-ND/9764646; Package: 48-VFQFN; ComponentType: IC FPGA; Temperature: -40...+100°C; Series: iCE40 Ultra
footprint 48-QFN (7x7) (7x7 mm, pitch 0.5 mm, power pad)
pins: 0 GND, 1 VCCIO2, 2 IOB_6A (power), 3 IOB_9B (power), 4 IOB_8A (power), 5 VCC, 6 IOB_13B (power), 7 CDONE (power), 8 RESET_B (power), 9 IOB_16A, 10 IOB_18A, 11 IOB_20A, 12 IOB_22A, 13 IOB_24A, 14 IOB_32A_SPI_SO, 15 IOB_34A_SPI_SCK, 16 IOB_35B_SPI_CSN, 17 IOB_33B_SPI_SI, 18 IOB_31B, 19 IOB_29B, 20 IOB_25B_G3, 21 IOB_23B, 22 SPI_VCCIO1, 23 IOT_37A, 24 VPP_2V5, 25 IOT_36B, 26 IOT_39A, 27 IOT_38B, 28 IOT_41A, 29 VCC_PLL, 30 VCC, 31 IOT_42B, 32 IOT_43A, 33 VCCIO0, 34 IOT_44B, 35 IOT_46B_G0, 36 IOT_48B, 37 IOT_45A_G1, 38 IOT_50B, 39 RGB2, 40 RGB1, 41 RGB0, 42 IOT_51A, 43 IOT_49A, 44 IOB_3B_G6 (power), 45 IOB_5B (power), 46 IOB_0A (power), 47 IOB_2A (power), 48 IOB_4A (power)